# EAGLE library part TCA9548A (library CESAR)
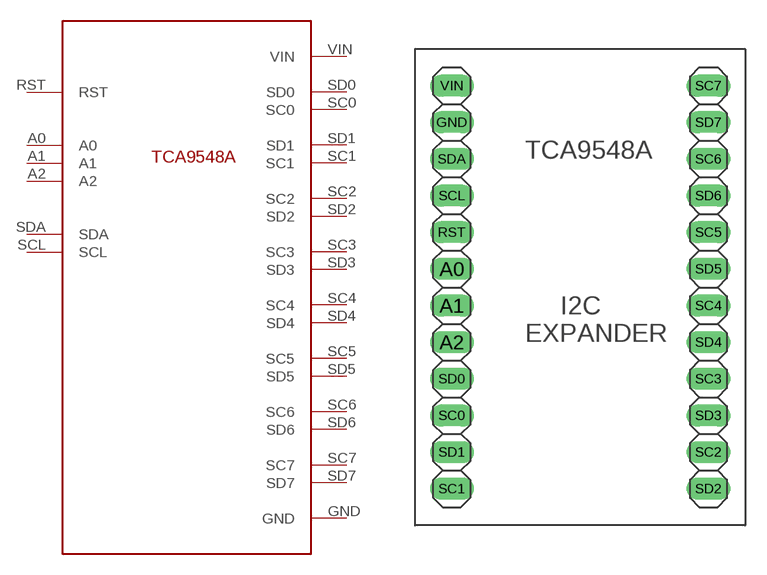
[diagram p0: symbol with the pads of TCA9548A; footprint TCA9548A]

Designator prefix -

## TCA9548A  [TCA9548A]
A0  A0
A1  A1
A2  A2
GND  GND
RST  RST
SC0  SC0
SC1  SC1
SC2  SC2
SC3  SC3
SC4  SC4
SC5  SC5
SC6  SC6
SC7  SC7
SCL  SCL
SD0  SD0
SD1  SD1
SD2  SD2
SD3  SD3
SD4  SD4
SD5  SD5
SD6  SD6
SD7  SD7
SDA  SDA
VIN  VIN

## Footprint TCA9548A (pad centres in mm)
drill 1.016 long: A0 -8.89,-12.7; A1 -8.89,-15.24; A2 -8.89,-17.78; GND -8.89,-2.54; RST -8.89,-10.16; SC0 -8.89,-22.86; SC1 -8.89,-27.94; SC2 8.89,-25.4; SC3 8.89,-20.32; SC4 8.89,-15.24; SC5 8.89,-10.16; SC6 8.89,-5.08; SC7 8.89,0; SCL -8.89,-7.62; SD0 -8.89,-20.32; SD1 -8.89,-25.4; SD2 8.89,-27.94; SD3 8.89,-22.86; SD4 8.89,-17.78; SD5 8.89,-12.7; SD6 8.89,-7.62; SD7 8.89,-2.54; SDA -8.89,-5.08; VIN -8.89,0